# Altium footprint library PCB - BATTERY HOLDER - KEYSTONE BS05.PcbLib: 1 footprints
Each footprint in its own frame and in the unit in brackets; x right, y up, seen from the top. Pads: shape width x height; smd on the part's side, far side on the other; paste and mask are expansions set on the pad; w line width, h text height; cw(c..) or ccw(c..) is an arc to the next point about the centre after c.
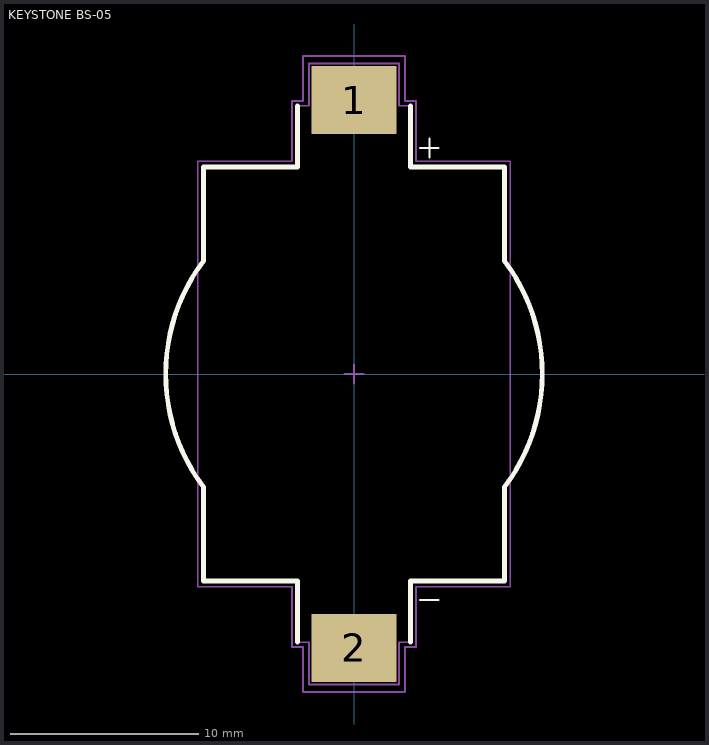
[diagram p0: the footprint, top view; thin cyan lines are the x and y axes]

## KEYSTONE BS-05 [mm]
height 5.5
pads (2):
  rect 4.5x3.6 smd: 1(0,14.55) 2(0,-14.55)
Top Overlay:
  lines w0.1: 3.5,-12 4.5,-12 ; 3.5,12 4.5,12 ; 4,11.5 4,12.5
  lines w0.254: -8.001,-5.998 cw(c0,0) -8,6 -8,11 -3,11 -3,14.25 ; -8,-6 -8,-11 -3,-11 -3,-14.25 ; 3,-14.25 3,-11 8,-11 8,-6 ccw(c0,0) 8,6 8,11 3,11 3,14.25
Mechanical 13:
  lines w0.1: -8.001,-5.998 cw(c0,0) -8,6 -8,11 -3,11 -3,14.25 -2.4,14.25 -2.4,16.5 2.4,16.5 2.4,14.25 3,14.25 3,11 8,11 8,6 cw(c0,0) 8,-6 8,-11 3,-11 3,-14.25 2.4,-14.25 2.4,-16.5 -2.4,-16.5 -2.4,-14.25 -3,-14.25 -3,-11 -8,-11 -8,-6
Mechanical 15 (Mech15):
  lines w0.1: -0.5,0 0.5,0 ; 0,-0.5 0,0.5 ; 3.3,-11.3 8.3,-11.3 ; 3.3,-11.3 3.3,-14.5 2.7,-14.5 2.7,-16.9 -2.7,-16.9 -2.7,-14.5 -3.3,-14.5 -3.3,-11.3 -8.3,-11.3 -8.3,11.3 -3.3,11.3 -3.3,14.5 -2.7,14.5 -2.7,16.9 2.7,16.9 2.7,14.5 3.3,14.5 3.3,11.3 8.3,11.3 8.3,-11.3 ; 3.3,-11.3 8.3,-11.3
3D body "CR232 SMD BATTERY HOLDER BS05.step": height 5.5, standoff -0.15, extent -8,-15.95 8,15.95
3D body: height 0.25, standoff 0, extent 0,0 0,0